# Altium schematic symbol library XAL7070-332MEC.SchLib: 1 symbol
Pins are listed as number, name and electrical type; pins without a type are passive.

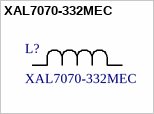
[diagram p0: symbol XAL7070-332MEC]

## XAL7070-332MEC
designator L?
Description; Manufacturer_Name: Coilcraft; Type: Fixed Inductors; Copyright: Copyright (C) 2026 Ultra Librarian. All rights reserved.; Manufacturer_Part_Number: XAL7070-332MEC
footprint IND_XAL7070_COC
pins: 1, 2